# EAGLE library part W25X20CL (library Semiconductors > Integrated Circuits - ICs > Memory ICs > Flash)
EEPROM SPI Serial Flash, 4KB Sectors
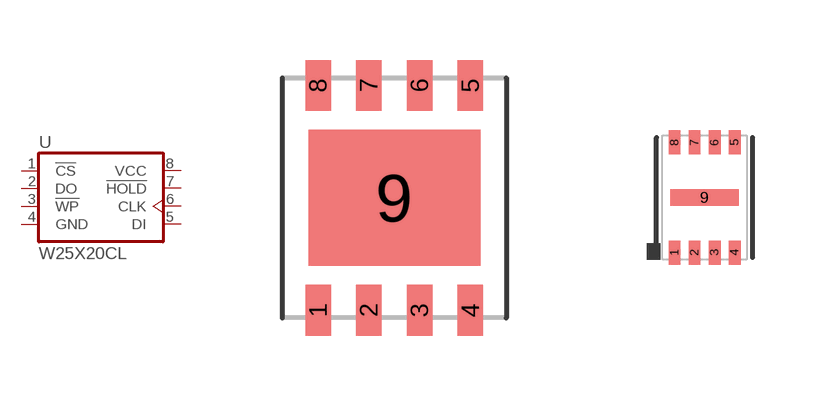
[diagram p4: symbol with the pads of WSON8; footprints WSON8, USON8-UX]

Designator prefix U

## W25X20CLZP  [WSON8]
1  !CS!  in
2  DO  out
3  !WP!  in
4  GND  pwr
5  DI  in
6  CLK  in
7  !HOLD!  in
8  VCC  pwr

## W25X20CLUX  [USON8-UX]
Pads as for WSON8

## Footprint WSON8 (pad centres in mm)
8-WSON 8-Contact Very-very-thin Small Outline No-lead body 6.00 x 5.00 mm
smd 0.635 x 1.27: 1 -1.905,-2.81; 2 -0.635,-2.81; 3 0.635,-2.81; 4 1.905,-2.81; 5 1.905,2.81; 6 0.635,2.81; 7 -0.635,2.81; 8 -1.905,2.81
smd 4.3 x 3.4: 9 0,0

## Footprint USON8-UX (pad centres in mm)
8-USON body 2.00 x 3.00 mm
smd 0.3 x 0.6: 1 -0.75,-1.375; 2 -0.25,-1.375; 3 0.25,-1.375; 4 0.75,-1.375; 5 0.75,1.375; 6 0.25,1.375; 7 -0.25,1.375; 8 -0.75,1.375
smd 1.7 x 0.4: 9 0,0